# Altium schematic symbol library PPTC041LFBN-RC.SchLib: 1 symbol
Pins are listed as number, name and electrical type; pins without a type are passive.

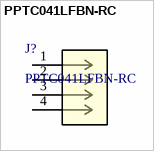
[diagram p0: symbol PPTC041LFBN-RC]

## PPTC041LFBN-RC
designator J?
Description; Manufacturer_Name: Sullins; Copyright: Copyright (C) 2026 Ultra Librarian. All rights reserved.; Manufacturer_Part_Number: PPTC041LFBN-RC; RefDes: RefDes; Type: Type
footprint CONN_PPTC041LFBN-RC_SUL
pins: 1, 2, 3, 4